# Altium integrated library TI Data Converters Digital to Analog Converter.IntLib: 1533 symbols (part 34 of 99)
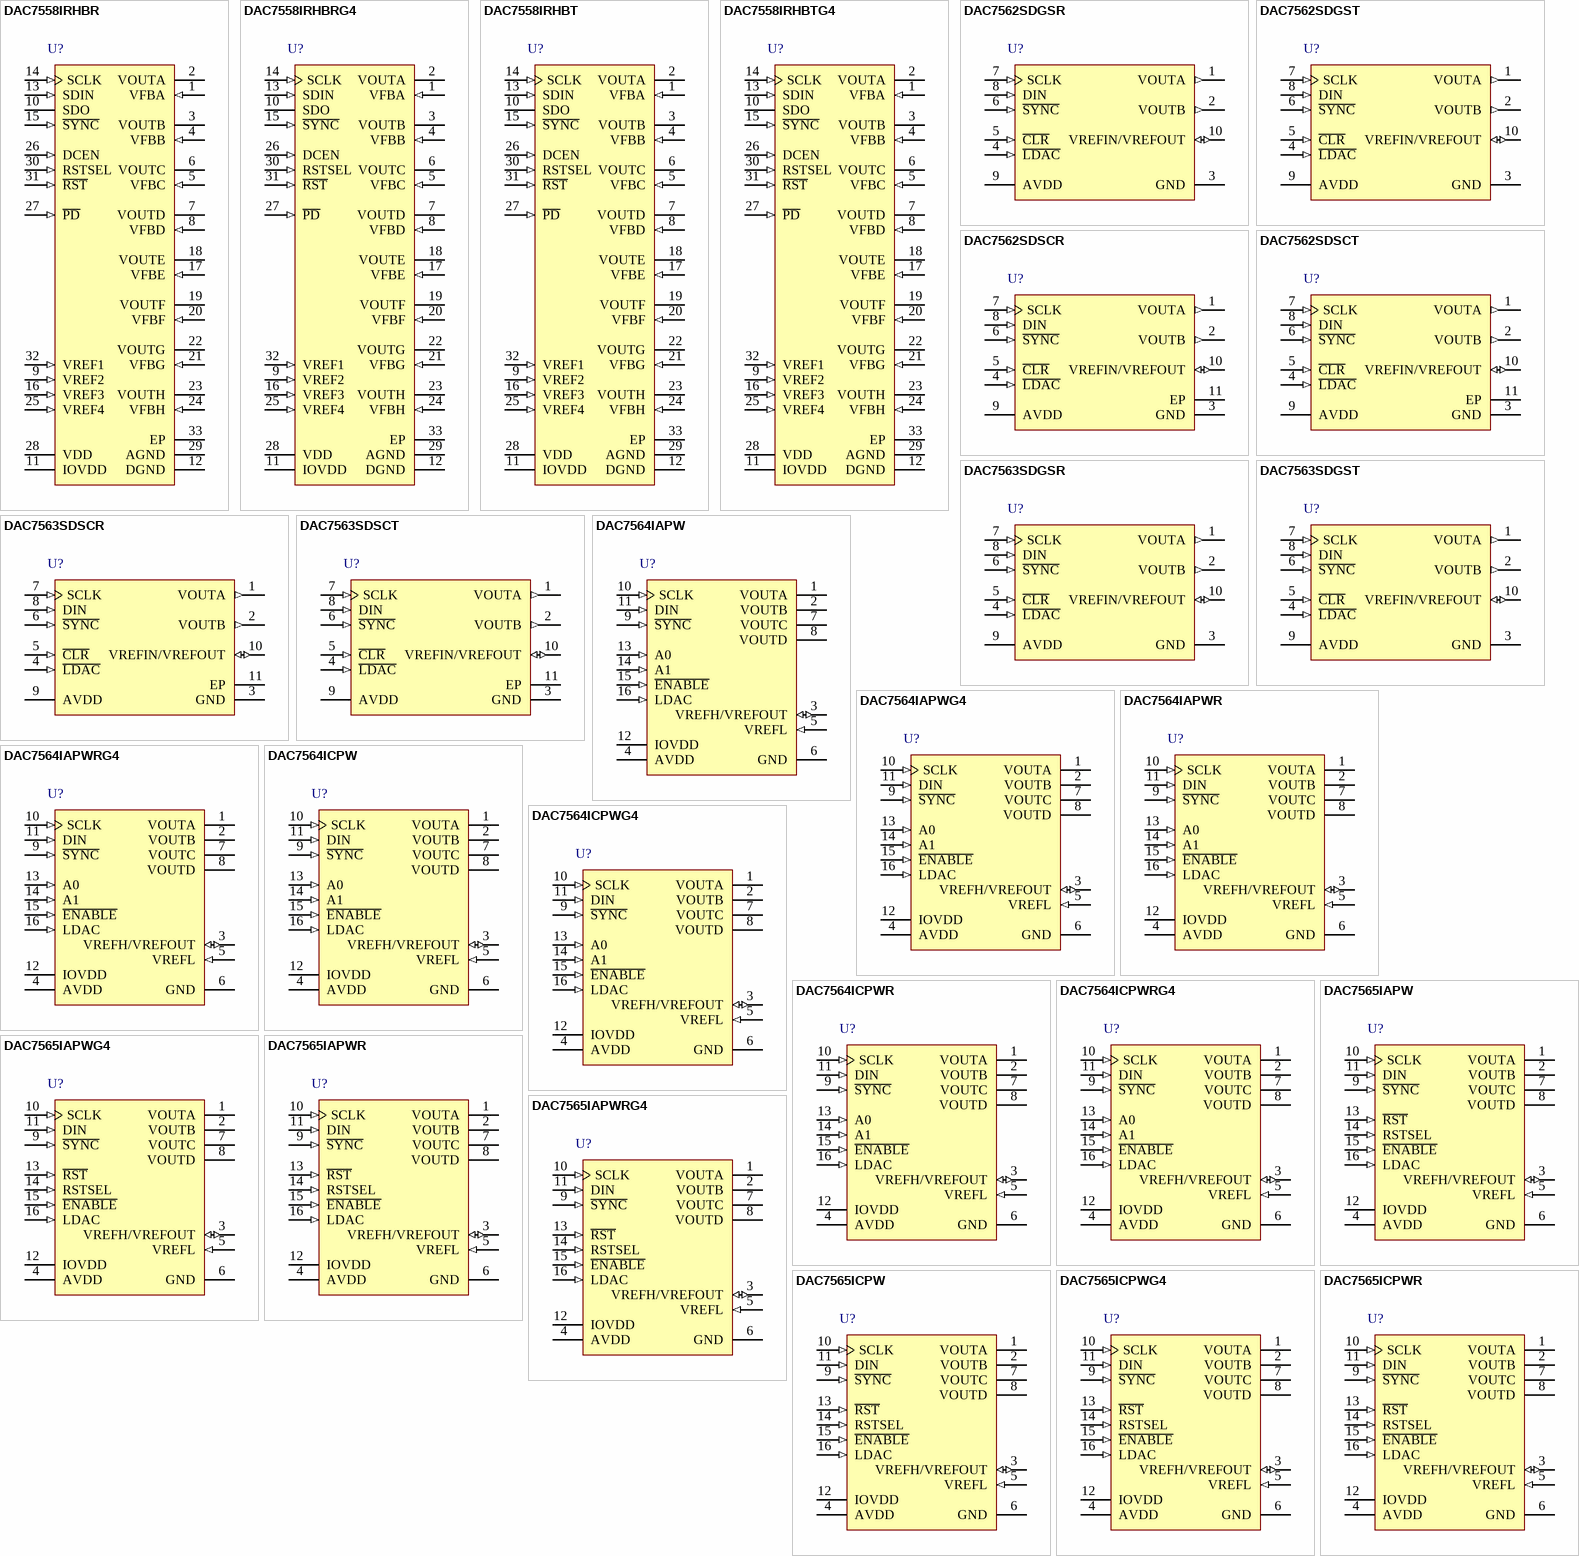
[diagram p106: symbols DAC7558IRHBR to DAC7565ICPWR]

## DAC7565IAPW
designator U?
12-Bit, Quad Channel, Ultra-Low Glitch, Voltage Output DAC with 2.5 V, 2 ppm/degC Internal Reference, -40 to 105 degC, 16-pin SOP (PW16), Green (RoHS & no Sb/Br); Manufacturer: Texas Instruments; PartNumber: DAC7565IAPW; DAC Channels: 4; DNL(Max)(+/-LSB): 0.5; INL(Max)(+/-LSB): 1; Interface: Serial SPI; Power Consumption(Typ)(mW): 2.9; Resolution(Bits): 12; Settling Time(us): 8; SFDR(dB): 79; SNR(dB): 81; SubFamily: Precision DAC (=<10MSPS); DatasheetVersion: SBAS412B; PackageVersion: 4040064-4/G, 02/2011; PackageReference: PW16; PackageDescription: 16-Pin Plastic Small Outline, Body 5 x 4.4 mm, Pitch 0.65 mm; Supplier 1: Digi-Key; Supplier Part Number 1: 296-23221-5-ND; Supplier 2: Farnell; Supplier Part Number 2: 1604982; Supplier 3: Newark; Supplier Part Number 3: 94M6804; Supplier 4: Mouser; Supplier Part Number 4: 595-DAC7565IAPW; Eco-Plan: Green (RoHS & no Sb/Br); Mounting Technology: Surface Mount; Code_JEDEC: MO-153; ComponentLink1Description: Manufacturer URL; ComponentLink1URL: http://www.ti.com/; ComponentLink2Description: Datasheet; ComponentLink2URL: http://www.ti.com/general/docs/lit/getliterature.tsp?genericPartNumber=DAC7565&fileType=pdf; ComponentLink3Description: Package Specification; ComponentLink3URL: http://www.ti.com/lit/ml/mpds361/mpds361.pdf
footprint TI-PW16_N (SOP, 16-Leads, Body 5x4.4mm, Pitch 0.65mm, IPC Medium Density)
footprint TI-PW16_L (SOP, 16-Leads, Body 5x4.4mm, Pitch 0.65mm, IPC High Density)
footprint TI-PW16_M (SOP, 16-Leads, Body 5x4.4mm, Pitch 0.65mm, IPC Low Density)
pins: 1 VOUTA (hiz) "Analog output voltage from DAC A", 2 VOUTB (hiz) "Analog output voltage from DAC B", 3 VREFH/VREFOUT (io) "Positive reference input / reference output 2.5V if internal reference used.", 4 AVDD (power) "Power-supply input, 2.7V to 5.5V", 5 VREFL (in) "Negative reference input", 6 GND (power) "Ground reference point for all circuitry on the part", 7 VOUTC (hiz) "Analog output voltage from DAC C", 8 VOUTD (hiz) "Analog output voltage from DAC D", 9 ~{SYNC} (in) "Level-triggered control input (active low). This input is the frame synchronization signal for the input data. When S\Y\N\C\ goes low, it enables the input shift register, and data are sampled on subsequent falling clock (See Datasheet)", 10 SCLK (in) "Serial clock input. Data can be transferred at rates up to 50MHz. Schmitt-Trigger logic input.", 11 DIN (in) "Serial data input. Data are clocked into the 24-bit input shift register on each falling edge of the serial clock input. Schmitt-Trigger logic input.", 12 IOVDD (power) "Digital input-output power supply", 13 ~{RST} (in) "Asynchronous reset. Active low. If R\S\T\ is low, all DAC channels reset either to zero-scale (RSTSEL = 0) or to mid-scale (RSTSEL = 1)", 14 RSTSEL (in) "Reset select. If RSTSEL is low, input coding is binary; if high = two's complement.", 15 ~{ENABLE} (in) "The enable pin (active low) connects the SPI interface to the serial port", 16 LDAC (in) "Load DACs; rising edge triggered, loads all DAC registers"

## DAC7565IAPWG4
designator U?
12-Bit, Quad Channel, Ultra-Low Glitch, Voltage Output DAC with 2.5 V, 2 ppm/degC Internal Reference, -40 to 105 degC, 16-pin SOP (PW16), Green (RoHS & no Sb/Br); Manufacturer: Texas Instruments; PartNumber: DAC7565IAPWG4; DAC Channels: 4; DNL(Max)(+/-LSB): 0.5; INL(Max)(+/-LSB): 1; Interface: Serial SPI; Power Consumption(Typ)(mW): 2.9; Resolution(Bits): 12; Settling Time(us): 8; SFDR(dB): 79; SNR(dB): 81; SubFamily: Precision DAC (=<10MSPS); DatasheetVersion: SBAS412B; PackageVersion: 4040064-4/G, 02/2011; PackageReference: PW16; PackageDescription: 16-Pin Plastic Small Outline, Body 5 x 4.4 mm, Pitch 0.65 mm; Supplier 1: Digi-Key; Supplier Part Number 1: DAC7565IAPWG4-ND; Supplier 2: Mouser; Supplier Part Number 2: 595-DAC7565IAPWG4; Eco-Plan: Green (RoHS & no Sb/Br); Mounting Technology: Surface Mount; Code_JEDEC: MO-153; ComponentLink1Description: Manufacturer URL; ComponentLink1URL: http://www.ti.com/; ComponentLink2Description: Datasheet; ComponentLink2URL: http://www.ti.com/general/docs/lit/getliterature.tsp?genericPartNumber=DAC7565&fileType=pdf; ComponentLink3Description: Package Specification; ComponentLink3URL: http://www.ti.com/lit/ml/mpds361/mpds361.pdf
footprint TI-PW16_N (SOP, 16-Leads, Body 5x4.4mm, Pitch 0.65mm, IPC Medium Density)
footprint TI-PW16_L (SOP, 16-Leads, Body 5x4.4mm, Pitch 0.65mm, IPC High Density)
footprint TI-PW16_M (SOP, 16-Leads, Body 5x4.4mm, Pitch 0.65mm, IPC Low Density)
pins: 1 VOUTA (hiz) "Analog output voltage from DAC A", 2 VOUTB (hiz) "Analog output voltage from DAC B", 3 VREFH/VREFOUT (io) "Positive reference input / reference output 2.5V if internal reference used.", 4 AVDD (power) "Power-supply input, 2.7V to 5.5V", 5 VREFL (in) "Negative reference input", 6 GND (power) "Ground reference point for all circuitry on the part", 7 VOUTC (hiz) "Analog output voltage from DAC C", 8 VOUTD (hiz) "Analog output voltage from DAC D", 9 ~{SYNC} (in) "Level-triggered control input (active low). This input is the frame synchronization signal for the input data. When S\Y\N\C\ goes low, it enables the input shift register, and data are sampled on subsequent falling clock (See Datasheet)", 10 SCLK (in) "Serial clock input. Data can be transferred at rates up to 50MHz. Schmitt-Trigger logic input.", 11 DIN (in) "Serial data input. Data are clocked into the 24-bit input shift register on each falling edge of the serial clock input. Schmitt-Trigger logic input.", 12 IOVDD (power) "Digital input-output power supply", 13 ~{RST} (in) "Asynchronous reset. Active low. If R\S\T\ is low, all DAC channels reset either to zero-scale (RSTSEL = 0) or to mid-scale (RSTSEL = 1)", 14 RSTSEL (in) "Reset select. If RSTSEL is low, input coding is binary; if high = two's complement.", 15 ~{ENABLE} (in) "The enable pin (active low) connects the SPI interface to the serial port", 16 LDAC (in) "Load DACs; rising edge triggered, loads all DAC registers"

## DAC7565IAPWR
designator U?
12-Bit, Quad Channel, Ultra-Low Glitch, Voltage Output DAC with 2.5 V, 2 ppm/degC Internal Reference, -40 to 105 degC, 16-pin SOP (PW16), Green (RoHS & no Sb/Br); Manufacturer: Texas Instruments; PartNumber: DAC7565IAPWR; DAC Channels: 4; DNL(Max)(+/-LSB): 0.5; INL(Max)(+/-LSB): 1; Interface: Serial SPI; Power Consumption(Typ)(mW): 2.9; Resolution(Bits): 12; Settling Time(us): 8; SFDR(dB): 79; SNR(dB): 81; SubFamily: Precision DAC (=<10MSPS); DatasheetVersion: SBAS412B; PackageVersion: 4040064-4/G, 02/2011; PackageReference: PW16; PackageDescription: 16-Pin Plastic Small Outline, Body 5 x 4.4 mm, Pitch 0.65 mm; Supplier 1: Digi-Key; Supplier Part Number 1: DAC7565IAPWR-ND; Supplier 2: Mouser; Supplier Part Number 2: 595-DAC7565IAPWR; Eco-Plan: Green (RoHS & no Sb/Br); Mounting Technology: Surface Mount; Code_JEDEC: MO-153; ComponentLink1Description: Manufacturer URL; ComponentLink1URL: http://www.ti.com/; ComponentLink2Description: Datasheet; ComponentLink2URL: http://www.ti.com/general/docs/lit/getliterature.tsp?genericPartNumber=DAC7565&fileType=pdf; ComponentLink3Description: Package Specification; ComponentLink3URL: http://www.ti.com/lit/ml/mpds361/mpds361.pdf
footprint TI-PW16_N (SOP, 16-Leads, Body 5x4.4mm, Pitch 0.65mm, IPC Medium Density)
footprint TI-PW16_L (SOP, 16-Leads, Body 5x4.4mm, Pitch 0.65mm, IPC High Density)
footprint TI-PW16_M (SOP, 16-Leads, Body 5x4.4mm, Pitch 0.65mm, IPC Low Density)
pins: 1 VOUTA (hiz) "Analog output voltage from DAC A", 2 VOUTB (hiz) "Analog output voltage from DAC B", 3 VREFH/VREFOUT (io) "Positive reference input / reference output 2.5V if internal reference used.", 4 AVDD (power) "Power-supply input, 2.7V to 5.5V", 5 VREFL (in) "Negative reference input", 6 GND (power) "Ground reference point for all circuitry on the part", 7 VOUTC (hiz) "Analog output voltage from DAC C", 8 VOUTD (hiz) "Analog output voltage from DAC D", 9 ~{SYNC} (in) "Level-triggered control input (active low). This input is the frame synchronization signal for the input data. When S\Y\N\C\ goes low, it enables the input shift register, and data are sampled on subsequent falling clock (See Datasheet)", 10 SCLK (in) "Serial clock input. Data can be transferred at rates up to 50MHz. Schmitt-Trigger logic input.", 11 DIN (in) "Serial data input. Data are clocked into the 24-bit input shift register on each falling edge of the serial clock input. Schmitt-Trigger logic input.", 12 IOVDD (power) "Digital input-output power supply", 13 ~{RST} (in) "Asynchronous reset. Active low. If R\S\T\ is low, all DAC channels reset either to zero-scale (RSTSEL = 0) or to mid-scale (RSTSEL = 1)", 14 RSTSEL (in) "Reset select. If RSTSEL is low, input coding is binary; if high = two's complement.", 15 ~{ENABLE} (in) "The enable pin (active low) connects the SPI interface to the serial port", 16 LDAC (in) "Load DACs; rising edge triggered, loads all DAC registers"

## DAC7565IAPWRG4
designator U?
12-Bit, Quad Channel, Ultra-Low Glitch, Voltage Output DAC with 2.5 V, 2 ppm/degC Internal Reference, -40 to 105 degC, 16-pin SOP (PW16), Green (RoHS & no Sb/Br); Manufacturer: Texas Instruments; PartNumber: DAC7565IAPWRG4; DAC Channels: 4; DNL(Max)(+/-LSB): 0.5; INL(Max)(+/-LSB): 1; Interface: Serial SPI; Power Consumption(Typ)(mW): 2.9; Resolution(Bits): 12; Settling Time(us): 8; SFDR(dB): 79; SNR(dB): 81; SubFamily: Precision DAC (=<10MSPS); DatasheetVersion: SBAS412B; PackageVersion: 4040064-4/G, 02/2011; PackageReference: PW16; PackageDescription: 16-Pin Plastic Small Outline, Body 5 x 4.4 mm, Pitch 0.65 mm; Supplier 1: Digi-Key; Supplier Part Number 1: DAC7565IAPWRG4-ND; Supplier 2: Mouser; Supplier Part Number 2: 595-DAC7565IAPWRG4; Eco-Plan: Green (RoHS & no Sb/Br); Mounting Technology: Surface Mount; Code_JEDEC: MO-153; ComponentLink1Description: Manufacturer URL; ComponentLink1URL: http://www.ti.com/; ComponentLink2Description: Datasheet; ComponentLink2URL: http://www.ti.com/general/docs/lit/getliterature.tsp?genericPartNumber=DAC7565&fileType=pdf; ComponentLink3Description: Package Specification; ComponentLink3URL: http://www.ti.com/lit/ml/mpds361/mpds361.pdf
footprint TI-PW16_N (SOP, 16-Leads, Body 5x4.4mm, Pitch 0.65mm, IPC Medium Density)
footprint TI-PW16_L (SOP, 16-Leads, Body 5x4.4mm, Pitch 0.65mm, IPC High Density)
footprint TI-PW16_M (SOP, 16-Leads, Body 5x4.4mm, Pitch 0.65mm, IPC Low Density)
pins: 1 VOUTA (hiz) "Analog output voltage from DAC A", 2 VOUTB (hiz) "Analog output voltage from DAC B", 3 VREFH/VREFOUT (io) "Positive reference input / reference output 2.5V if internal reference used.", 4 AVDD (power) "Power-supply input, 2.7V to 5.5V", 5 VREFL (in) "Negative reference input", 6 GND (power) "Ground reference point for all circuitry on the part", 7 VOUTC (hiz) "Analog output voltage from DAC C", 8 VOUTD (hiz) "Analog output voltage from DAC D", 9 ~{SYNC} (in) "Level-triggered control input (active low). This input is the frame synchronization signal for the input data. When S\Y\N\C\ goes low, it enables the input shift register, and data are sampled on subsequent falling clock (See Datasheet)", 10 SCLK (in) "Serial clock input. Data can be transferred at rates up to 50MHz. Schmitt-Trigger logic input.", 11 DIN (in) "Serial data input. Data are clocked into the 24-bit input shift register on each falling edge of the serial clock input. Schmitt-Trigger logic input.", 12 IOVDD (power) "Digital input-output power supply", 13 ~{RST} (in) "Asynchronous reset. Active low. If R\S\T\ is low, all DAC channels reset either to zero-scale (RSTSEL = 0) or to mid-scale (RSTSEL = 1)", 14 RSTSEL (in) "Reset select. If RSTSEL is low, input coding is binary; if high = two's complement.", 15 ~{ENABLE} (in) "The enable pin (active low) connects the SPI interface to the serial port", 16 LDAC (in) "Load DACs; rising edge triggered, loads all DAC registers"

## DAC7565ICPW
designator U?
12-Bit, Quad Channel, Ultra-Low Glitch, Voltage Output DAC with 2.5 V, 2 ppm/degC Internal Reference, -40 to 105 degC, 16-pin SOP (PW16), Green (RoHS & no Sb/Br); Manufacturer: Texas Instruments; PartNumber: DAC7565ICPW; DAC Channels: 4; DNL(Max)(+/-LSB): 0.5; INL(Max)(+/-LSB): 1; Interface: Serial SPI; Power Consumption(Typ)(mW): 2.9; Resolution(Bits): 12; Settling Time(us): 8; SFDR(dB): 79; SNR(dB): 81; SubFamily: Precision DAC (=<10MSPS); DatasheetVersion: SBAS412B; PackageVersion: 4040064-4/G, 02/2011; PackageReference: PW16; PackageDescription: 16-Pin Plastic Small Outline, Body 5 x 4.4 mm, Pitch 0.65 mm; Supplier 1: Digi-Key; Supplier Part Number 1: 296-23222-5-ND; Supplier 2: Newark; Supplier Part Number 2: 94M6808; Supplier 3: Mouser; Supplier Part Number 3: 595-DAC7565ICPW; Eco-Plan: Green (RoHS & no Sb/Br); Mounting Technology: Surface Mount; Code_JEDEC: MO-153; ComponentLink1Description: Manufacturer URL; ComponentLink1URL: http://www.ti.com/; ComponentLink2Description: Datasheet; ComponentLink2URL: http://www.ti.com/general/docs/lit/getliterature.tsp?genericPartNumber=DAC7565&fileType=pdf; ComponentLink3Description: Package Specification; ComponentLink3URL: http://www.ti.com/lit/ml/mpds361/mpds361.pdf
footprint TI-PW16_N (SOP, 16-Leads, Body 5x4.4mm, Pitch 0.65mm, IPC Medium Density)
footprint TI-PW16_L (SOP, 16-Leads, Body 5x4.4mm, Pitch 0.65mm, IPC High Density)
footprint TI-PW16_M (SOP, 16-Leads, Body 5x4.4mm, Pitch 0.65mm, IPC Low Density)
pins: 1 VOUTA (hiz) "Analog output voltage from DAC A", 2 VOUTB (hiz) "Analog output voltage from DAC B", 3 VREFH/VREFOUT (io) "Positive reference input / reference output 2.5V if internal reference used.", 4 AVDD (power) "Power-supply input, 2.7V to 5.5V", 5 VREFL (in) "Negative reference input", 6 GND (power) "Ground reference point for all circuitry on the part", 7 VOUTC (hiz) "Analog output voltage from DAC C", 8 VOUTD (hiz) "Analog output voltage from DAC D", 9 ~{SYNC} (in) "Level-triggered control input (active low). This input is the frame synchronization signal for the input data. When S\Y\N\C\ goes low, it enables the input shift register, and data are sampled on subsequent falling clock (See Datasheet)", 10 SCLK (in) "Serial clock input. Data can be transferred at rates up to 50MHz. Schmitt-Trigger logic input.", 11 DIN (in) "Serial data input. Data are clocked into the 24-bit input shift register on each falling edge of the serial clock input. Schmitt-Trigger logic input.", 12 IOVDD (power) "Digital input-output power supply", 13 ~{RST} (in) "Asynchronous reset. Active low. If R\S\T\ is low, all DAC channels reset either to zero-scale (RSTSEL = 0) or to mid-scale (RSTSEL = 1)", 14 RSTSEL (in) "Reset select. If RSTSEL is low, input coding is binary; if high = two's complement.", 15 ~{ENABLE} (in) "The enable pin (active low) connects the SPI interface to the serial port", 16 LDAC (in) "Load DACs; rising edge triggered, loads all DAC registers"

## DAC7565ICPWG4
designator U?
12-Bit, Quad Channel, Ultra-Low Glitch, Voltage Output DAC with 2.5 V, 2 ppm/degC Internal Reference, -40 to 105 degC, 16-pin SOP (PW16), Green (RoHS & no Sb/Br); Manufacturer: Texas Instruments; PartNumber: DAC7565ICPWG4; DAC Channels: 4; DNL(Max)(+/-LSB): 0.5; INL(Max)(+/-LSB): 1; Interface: Serial SPI; Power Consumption(Typ)(mW): 2.9; Resolution(Bits): 12; Settling Time(us): 8; SFDR(dB): 79; SNR(dB): 81; SubFamily: Precision DAC (=<10MSPS); DatasheetVersion: SBAS412B; PackageVersion: 4040064-4/G, 02/2011; PackageReference: PW16; PackageDescription: 16-Pin Plastic Small Outline, Body 5 x 4.4 mm, Pitch 0.65 mm; Supplier 1: Digi-Key; Supplier Part Number 1: DAC7565ICPWG4-ND; Supplier 2: Mouser; Supplier Part Number 2: 595-DAC7565ICPWG4; Eco-Plan: Green (RoHS & no Sb/Br); Mounting Technology: Surface Mount; Code_JEDEC: MO-153; ComponentLink1Description: Manufacturer URL; ComponentLink1URL: http://www.ti.com/; ComponentLink2Description: Datasheet; ComponentLink2URL: http://www.ti.com/general/docs/lit/getliterature.tsp?genericPartNumber=DAC7565&fileType=pdf; ComponentLink3Description: Package Specification; ComponentLink3URL: http://www.ti.com/lit/ml/mpds361/mpds361.pdf
footprint TI-PW16_N (SOP, 16-Leads, Body 5x4.4mm, Pitch 0.65mm, IPC Medium Density)
footprint TI-PW16_L (SOP, 16-Leads, Body 5x4.4mm, Pitch 0.65mm, IPC High Density)
footprint TI-PW16_M (SOP, 16-Leads, Body 5x4.4mm, Pitch 0.65mm, IPC Low Density)
pins: 1 VOUTA (hiz) "Analog output voltage from DAC A", 2 VOUTB (hiz) "Analog output voltage from DAC B", 3 VREFH/VREFOUT (io) "Positive reference input / reference output 2.5V if internal reference used.", 4 AVDD (power) "Power-supply input, 2.7V to 5.5V", 5 VREFL (in) "Negative reference input", 6 GND (power) "Ground reference point for all circuitry on the part", 7 VOUTC (hiz) "Analog output voltage from DAC C", 8 VOUTD (hiz) "Analog output voltage from DAC D", 9 ~{SYNC} (in) "Level-triggered control input (active low). This input is the frame synchronization signal for the input data. When S\Y\N\C\ goes low, it enables the input shift register, and data are sampled on subsequent falling clock (See Datasheet)", 10 SCLK (in) "Serial clock input. Data can be transferred at rates up to 50MHz. Schmitt-Trigger logic input.", 11 DIN (in) "Serial data input. Data are clocked into the 24-bit input shift register on each falling edge of the serial clock input. Schmitt-Trigger logic input.", 12 IOVDD (power) "Digital input-output power supply", 13 ~{RST} (in) "Asynchronous reset. Active low. If R\S\T\ is low, all DAC channels reset either to zero-scale (RSTSEL = 0) or to mid-scale (RSTSEL = 1)", 14 RSTSEL (in) "Reset select. If RSTSEL is low, input coding is binary; if high = two's complement.", 15 ~{ENABLE} (in) "The enable pin (active low) connects the SPI interface to the serial port", 16 LDAC (in) "Load DACs; rising edge triggered, loads all DAC registers"

## DAC7565ICPWR
designator U?
12-Bit, Quad Channel, Ultra-Low Glitch, Voltage Output DAC with 2.5 V, 2 ppm/degC Internal Reference, -40 to 105 degC, 16-pin SOP (PW16), Green (RoHS & no Sb/Br); Manufacturer: Texas Instruments; PartNumber: DAC7565ICPWR; DAC Channels: 4; DNL(Max)(+/-LSB): 0.5; INL(Max)(+/-LSB): 1; Interface: Serial SPI; Power Consumption(Typ)(mW): 2.9; Resolution(Bits): 12; Settling Time(us): 8; SFDR(dB): 79; SNR(dB): 81; SubFamily: Precision DAC (=<10MSPS); DatasheetVersion: SBAS412B; PackageVersion: 4040064-4/G, 02/2011; PackageReference: PW16; PackageDescription: 16-Pin Plastic Small Outline, Body 5 x 4.4 mm, Pitch 0.65 mm; Supplier 1: Digi-Key; Supplier Part Number 1: DAC7565ICPWR-ND; Supplier 2: Newark; Supplier Part Number 2: 94M6810; Supplier 3: Mouser; Supplier Part Number 3: 595-DAC7565ICPWR; Eco-Plan: Green (RoHS & no Sb/Br); Mounting Technology: Surface Mount; Code_JEDEC: MO-153; ComponentLink1Description: Manufacturer URL; ComponentLink1URL: http://www.ti.com/; ComponentLink2Description: Datasheet; ComponentLink2URL: http://www.ti.com/general/docs/lit/getliterature.tsp?genericPartNumber=DAC7565&fileType=pdf; ComponentLink3Description: Package Specification; ComponentLink3URL: http://www.ti.com/lit/ml/mpds361/mpds361.pdf
footprint TI-PW16_N (SOP, 16-Leads, Body 5x4.4mm, Pitch 0.65mm, IPC Medium Density)
footprint TI-PW16_L (SOP, 16-Leads, Body 5x4.4mm, Pitch 0.65mm, IPC High Density)
footprint TI-PW16_M (SOP, 16-Leads, Body 5x4.4mm, Pitch 0.65mm, IPC Low Density)
pins: 1 VOUTA (hiz) "Analog output voltage from DAC A", 2 VOUTB (hiz) "Analog output voltage from DAC B", 3 VREFH/VREFOUT (io) "Positive reference input / reference output 2.5V if internal reference used.", 4 AVDD (power) "Power-supply input, 2.7V to 5.5V", 5 VREFL (in) "Negative reference input", 6 GND (power) "Ground reference point for all circuitry on the part", 7 VOUTC (hiz) "Analog output voltage from DAC C", 8 VOUTD (hiz) "Analog output voltage from DAC D", 9 ~{SYNC} (in) "Level-triggered control input (active low). This input is the frame synchronization signal for the input data. When S\Y\N\C\ goes low, it enables the input shift register, and data are sampled on subsequent falling clock (See Datasheet)", 10 SCLK (in) "Serial clock input. Data can be transferred at rates up to 50MHz. Schmitt-Trigger logic input.", 11 DIN (in) "Serial data input. Data are clocked into the 24-bit input shift register on each falling edge of the serial clock input. Schmitt-Trigger logic input.", 12 IOVDD (power) "Digital input-output power supply", 13 ~{RST} (in) "Asynchronous reset. Active low. If R\S\T\ is low, all DAC channels reset either to zero-scale (RSTSEL = 0) or to mid-scale (RSTSEL = 1)", 14 RSTSEL (in) "Reset select. If RSTSEL is low, input coding is binary; if high = two's complement.", 15 ~{ENABLE} (in) "The enable pin (active low) connects the SPI interface to the serial port", 16 LDAC (in) "Load DACs; rising edge triggered, loads all DAC registers"

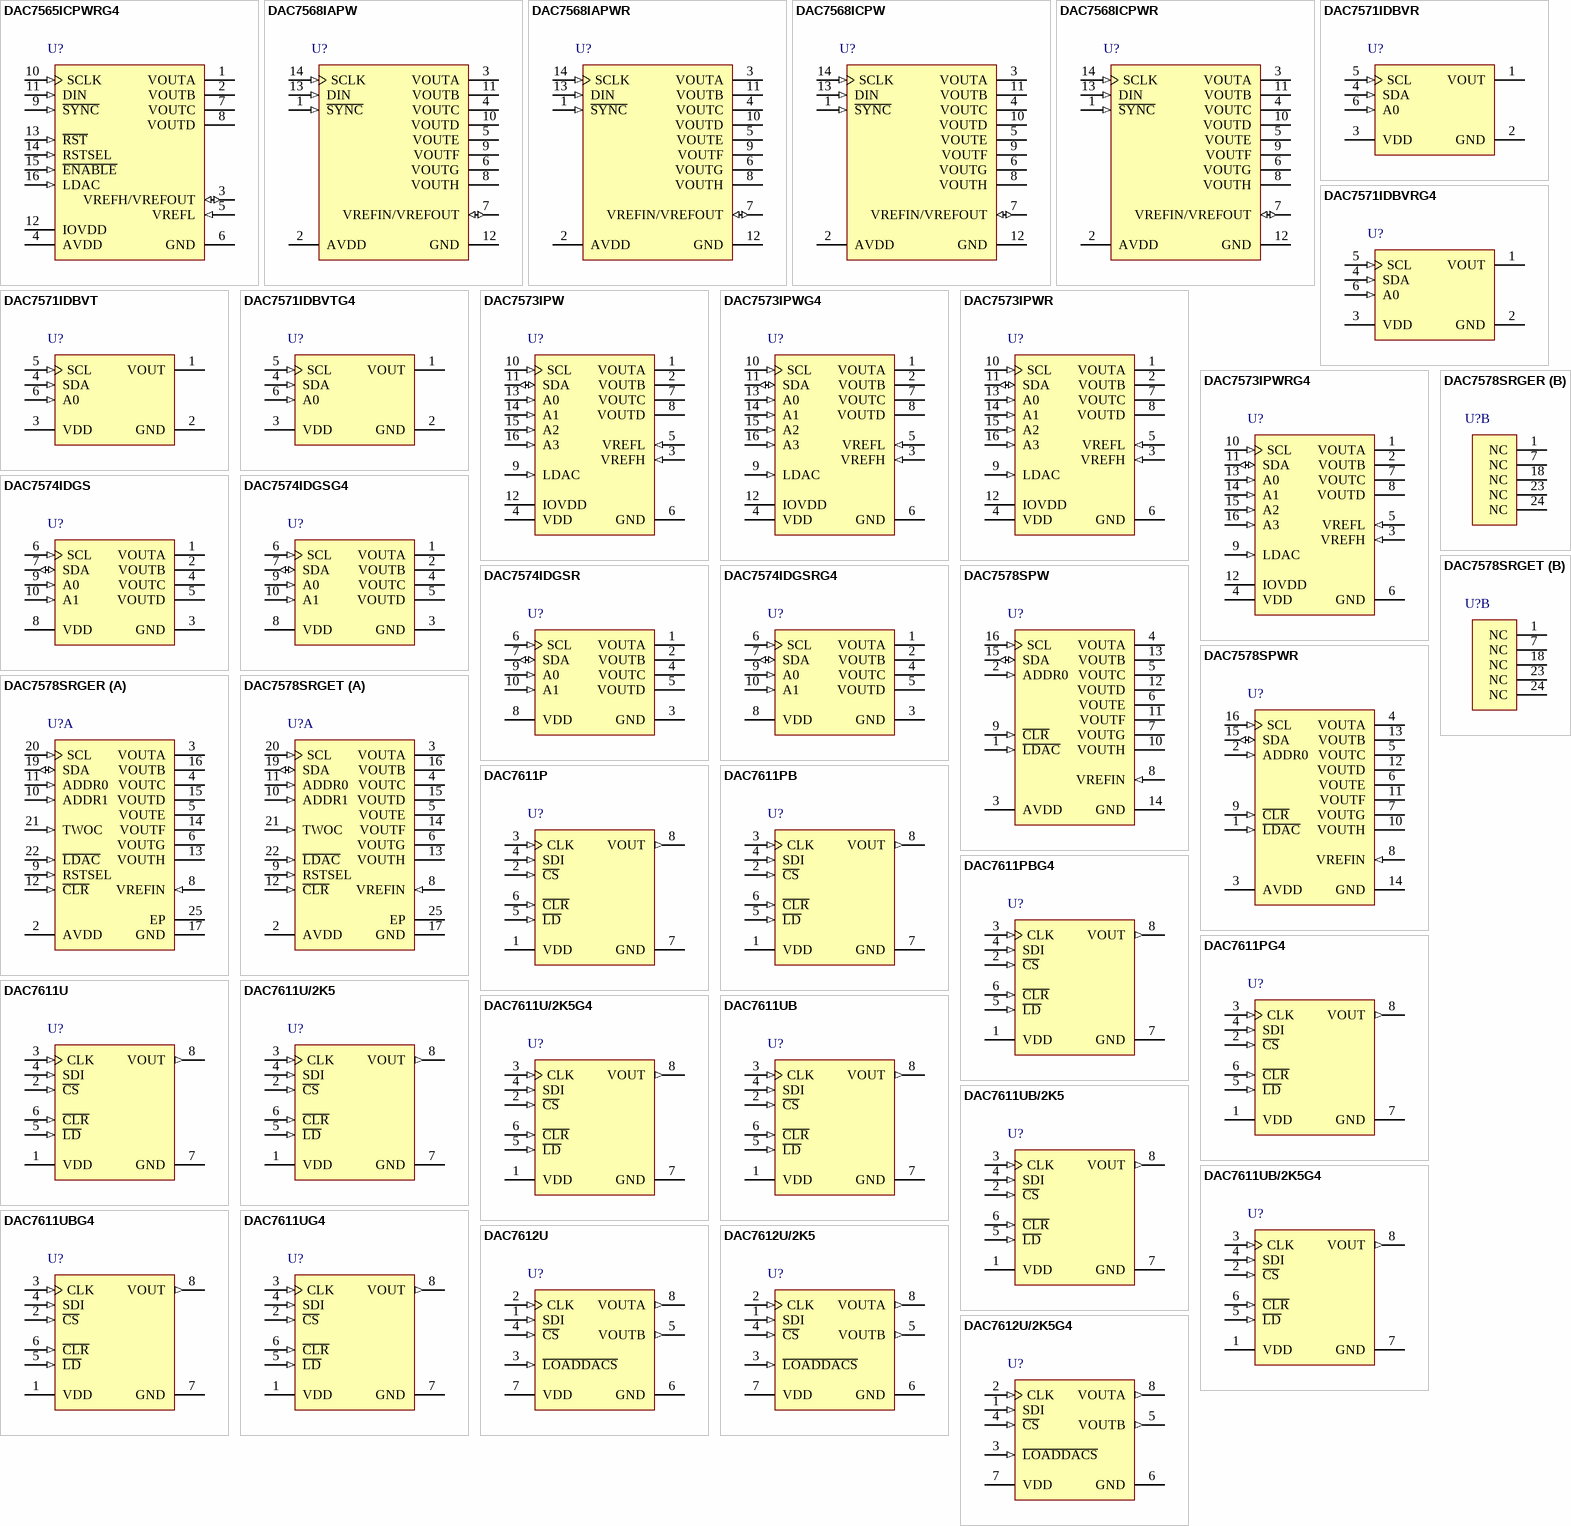
[diagram p25: symbols DAC7565ICPWRG4 to DAC7612U/2K5G4]

## DAC7565ICPWRG4
designator U?
12-Bit, Quad Channel, Ultra-Low Glitch, Voltage Output DAC with 2.5 V, 2 ppm/degC Internal Reference, -40 to 105 degC, 16-pin SOP (PW16), Green (RoHS & no Sb/Br); Manufacturer: Texas Instruments; PartNumber: DAC7565ICPWRG4; DAC Channels: 4; DNL(Max)(+/-LSB): 0.5; INL(Max)(+/-LSB): 1; Interface: Serial SPI; Power Consumption(Typ)(mW): 2.9; Resolution(Bits): 12; Settling Time(us): 8; SFDR(dB): 79; SNR(dB): 81; SubFamily: Precision DAC (=<10MSPS); DatasheetVersion: SBAS412B; PackageVersion: 4040064-4/G, 02/2011; PackageReference: PW16; PackageDescription: 16-Pin Plastic Small Outline, Body 5 x 4.4 mm, Pitch 0.65 mm; Supplier 1: Digi-Key; Supplier Part Number 1: DAC7565ICPWRG4-ND; Supplier 2: Mouser; Supplier Part Number 2: 595-DAC7565ICPWRG4; Eco-Plan: Green (RoHS & no Sb/Br); Mounting Technology: Surface Mount; Code_JEDEC: MO-153; ComponentLink1Description: Manufacturer URL; ComponentLink1URL: http://www.ti.com/; ComponentLink2Description: Datasheet; ComponentLink2URL: http://www.ti.com/general/docs/lit/getliterature.tsp?genericPartNumber=DAC7565&fileType=pdf; ComponentLink3Description: Package Specification; ComponentLink3URL: http://www.ti.com/lit/ml/mpds361/mpds361.pdf
footprint TI-PW16_N (SOP, 16-Leads, Body 5x4.4mm, Pitch 0.65mm, IPC Medium Density)
footprint TI-PW16_L (SOP, 16-Leads, Body 5x4.4mm, Pitch 0.65mm, IPC High Density)
footprint TI-PW16_M (SOP, 16-Leads, Body 5x4.4mm, Pitch 0.65mm, IPC Low Density)
pins: 1 VOUTA (hiz) "Analog output voltage from DAC A", 2 VOUTB (hiz) "Analog output voltage from DAC B", 3 VREFH/VREFOUT (io) "Positive reference input / reference output 2.5V if internal reference used.", 4 AVDD (power) "Power-supply input, 2.7V to 5.5V", 5 VREFL (in) "Negative reference input", 6 GND (power) "Ground reference point for all circuitry on the part", 7 VOUTC (hiz) "Analog output voltage from DAC C", 8 VOUTD (hiz) "Analog output voltage from DAC D", 9 ~{SYNC} (in) "Level-triggered control input (active low). This input is the frame synchronization signal for the input data. When S\Y\N\C\ goes low, it enables the input shift register, and data are sampled on subsequent falling clock (See Datasheet)", 10 SCLK (in) "Serial clock input. Data can be transferred at rates up to 50MHz. Schmitt-Trigger logic input.", 11 DIN (in) "Serial data input. Data are clocked into the 24-bit input shift register on each falling edge of the serial clock input. Schmitt-Trigger logic input.", 12 IOVDD (power) "Digital input-output power supply", 13 ~{RST} (in) "Asynchronous reset. Active low. If R\S\T\ is low, all DAC channels reset either to zero-scale (RSTSEL = 0) or to mid-scale (RSTSEL = 1)", 14 RSTSEL (in) "Reset select. If RSTSEL is low, input coding is binary; if high = two's complement.", 15 ~{ENABLE} (in) "The enable pin (active low) connects the SPI interface to the serial port", 16 LDAC (in) "Load DACs; rising edge triggered, loads all DAC registers"

## DAC7568IAPW
designator U?
12-Bit, Octal Channel, Ultra-Low Glitch, Voltage Output DAC with 2.5V, 2 ppm/degC Internal Reference, -40 to 125 degC, 14-pin SOP (PW14), Green (RoHS & no Sb/Br); Manufacturer: Texas Instruments; PartNumber: DAC7568IAPW; DAC Channels: 8; DNL(Max)(+/-LSB): 0.25; INL(Max)(+/-LSB): 1; Interface: Serial SPI; Power Consumption(Typ)(mW): 2.2; Resolution(Bits): 12; Settling Time(us): 5; SFDR(dB): 63; SNR(dB): 83; SubFamily: Precision DAC (=<10MSPS); DatasheetVersion: SBAS430D; PackageVersion: 4040064-3/G, 02/2011; PackageReference: PW14; PackageDescription: 14-Pin Plastic Small Outline, Body 5 x 4.4 mm, Pitch 0.65 mm; Supplier 1: Digi-Key; Supplier Part Number 1: 296-24403-5-ND; Supplier 2: Newark; Supplier Part Number 2: 09R4523; Supplier 3: Mouser; Supplier Part Number 3: 595-DAC7568IAPW; Eco-Plan: Green (RoHS & no Sb/Br); Mounting Technology: Surface Mount; Code_JEDEC: MO-153; ComponentLink1Description: Manufacturer URL; ComponentLink1URL: http://www.ti.com/; ComponentLink2Description: Datasheet; ComponentLink2URL: http://www.ti.com/general/docs/lit/getliterature.tsp?genericPartNumber=DAC7568&fileType=pdf; ComponentLink3Description: Package Specification; ComponentLink3URL: http://www.ti.com/litv/pdf/mpds360
footprint TI-PW14_N (SOP, 14-Leads, Body 5x4.4mm, Pitch 0.65mm, IPC Medium Density)
footprint TI-PW14_L (SOP, 14-Leads, Body 5x4.4mm, Pitch 0.65mm, IPC High Density)
footprint TI-PW14_M (SOP, 14-Leads, Body 5x4.4mm, Pitch 0.65mm, IPC Low Density)
pins: 1 ~{SYNC} (in) "Level-triggered control input (active low). This input is the frame synchronization signal for the input data. When S\Y\N\C\ goes low, it enables the input shift register, and data are sampled on subsequent falling clock (See Datasheet)", 2 AVDD (power) "Power-supply input, 2.7V to 5.5V", 3 VOUTA (hiz) "Analog output voltage from DAC A", 4 VOUTC (hiz) "Analog output voltage from DAC C", 5 VOUTE (hiz) "Analog output voltage from DAC E", 6 VOUTG (hiz) "Analog output voltage from DAC G", 7 VREFIN/VREFOUT (io) "Positive reference input / reference output 2.5V if internal reference used.", 8 VOUTH (hiz) "Analog output voltage from DAC H", 9 VOUTF (hiz) "Analog output voltage from DAC F", 10 VOUTD (hiz) "Analog output voltage from DAC D", 11 VOUTB (hiz) "Analog output voltage from DAC B", 12 GND (power) "Ground reference point for all circuitry on the device", 13 DIN (in) "Serial data input. Data are clocked into the 32-bit input shift register on each falling edge of the serial clock input. Schmitt-Trigger logic input.", 14 SCLK (in) "Serial clock input. Data can be transferred at rates up to 50MHz. Schmitt-Trigger logic input."

## DAC7568IAPWR
designator U?
12-Bit, Octal Channel, Ultra-Low Glitch, Voltage Output DAC with 2.5V, 2 ppm/degC Internal Reference, -40 to 125 degC, 14-pin SOP (PW14), Green (RoHS & no Sb/Br); Manufacturer: Texas Instruments; PartNumber: DAC7568IAPWR; DAC Channels: 8; DNL(Max)(+/-LSB): 0.25; INL(Max)(+/-LSB): 1; Interface: Serial SPI; Power Consumption(Typ)(mW): 2.2; Resolution(Bits): 12; Settling Time(us): 5; SFDR(dB): 63; SNR(dB): 83; SubFamily: Precision DAC (=<10MSPS); DatasheetVersion: SBAS430D; PackageVersion: 4040064-3/G, 02/2011; PackageReference: PW14; PackageDescription: 14-Pin Plastic Small Outline, Body 5 x 4.4 mm, Pitch 0.65 mm; Supplier 1: Digi-Key; Supplier Part Number 1: DAC7568IAPWR-ND; Supplier 2: Newark; Supplier Part Number 2: 09R4524; Supplier 3: Mouser; Supplier Part Number 3: 595-DAC7568IAPWR; Eco-Plan: Green (RoHS & no Sb/Br); Mounting Technology: Surface Mount; Code_JEDEC: MO-153; ComponentLink1Description: Manufacturer URL; ComponentLink1URL: http://www.ti.com/; ComponentLink2Description: Datasheet; ComponentLink2URL: http://www.ti.com/general/docs/lit/getliterature.tsp?genericPartNumber=DAC7568&fileType=pdf; ComponentLink3Description: Package Specification; ComponentLink3URL: http://www.ti.com/litv/pdf/mpds360
footprint TI-PW14_N (SOP, 14-Leads, Body 5x4.4mm, Pitch 0.65mm, IPC Medium Density)
footprint TI-PW14_L (SOP, 14-Leads, Body 5x4.4mm, Pitch 0.65mm, IPC High Density)
footprint TI-PW14_M (SOP, 14-Leads, Body 5x4.4mm, Pitch 0.65mm, IPC Low Density)
pins: 1 ~{SYNC} (in) "Level-triggered control input (active low). This input is the frame synchronization signal for the input data. When S\Y\N\C\ goes low, it enables the input shift register, and data are sampled on subsequent falling clock (See Datasheet)", 2 AVDD (power) "Power-supply input, 2.7V to 5.5V", 3 VOUTA (hiz) "Analog output voltage from DAC A", 4 VOUTC (hiz) "Analog output voltage from DAC C", 5 VOUTE (hiz) "Analog output voltage from DAC E", 6 VOUTG (hiz) "Analog output voltage from DAC G", 7 VREFIN/VREFOUT (io) "Positive reference input / reference output 2.5V if internal reference used.", 8 VOUTH (hiz) "Analog output voltage from DAC H", 9 VOUTF (hiz) "Analog output voltage from DAC F", 10 VOUTD (hiz) "Analog output voltage from DAC D", 11 VOUTB (hiz) "Analog output voltage from DAC B", 12 GND (power) "Ground reference point for all circuitry on the device", 13 DIN (in) "Serial data input. Data are clocked into the 32-bit input shift register on each falling edge of the serial clock input. Schmitt-Trigger logic input.", 14 SCLK (in) "Serial clock input. Data can be transferred at rates up to 50MHz. Schmitt-Trigger logic input."

## DAC7568ICPW
designator U?
12-Bit, Octal Channel, Ultra-Low Glitch, Voltage Output DAC with 2.5V, 2 ppm/degC Internal Reference, -40 to 125 degC, 14-pin SOP (PW14), Green (RoHS & no Sb/Br); Manufacturer: Texas Instruments; PartNumber: DAC7568ICPW; DAC Channels: 8; DNL(Max)(+/-LSB): 0.25; INL(Max)(+/-LSB): 1; Interface: Serial SPI; Power Consumption(Typ)(mW): 2.2; Resolution(Bits): 12; Settling Time(us): 5; SFDR(dB): 63; SNR(dB): 83; SubFamily: Precision DAC (=<10MSPS); DatasheetVersion: SBAS430D; PackageVersion: 4040064-3/G, 02/2011; PackageReference: PW14; PackageDescription: 14-Pin Plastic Small Outline, Body 5 x 4.4 mm, Pitch 0.65 mm; Supplier 1: Digi-Key; Supplier Part Number 1: 296-24404-5-ND; Supplier 2: Farnell; Supplier Part Number 2: 1735560; Supplier 3: Newark; Supplier Part Number 3: 08R4452; Supplier 4: Mouser; Supplier Part Number 4: 595-DAC7568ICPW; Eco-Plan: Green (RoHS & no Sb/Br); Mounting Technology: Surface Mount; Code_JEDEC: MO-153; ComponentLink1Description: Manufacturer URL; ComponentLink1URL: http://www.ti.com/; ComponentLink2Description: Datasheet; ComponentLink2URL: http://www.ti.com/general/docs/lit/getliterature.tsp?genericPartNumber=DAC7568&fileType=pdf; ComponentLink3Description: Package Specification; ComponentLink3URL: http://www.ti.com/litv/pdf/mpds360
footprint TI-PW14_N (SOP, 14-Leads, Body 5x4.4mm, Pitch 0.65mm, IPC Medium Density)
footprint TI-PW14_L (SOP, 14-Leads, Body 5x4.4mm, Pitch 0.65mm, IPC High Density)
footprint TI-PW14_M (SOP, 14-Leads, Body 5x4.4mm, Pitch 0.65mm, IPC Low Density)
pins: 1 ~{SYNC} (in) "Level-triggered control input (active low). This input is the frame synchronization signal for the input data. When S\Y\N\C\ goes low, it enables the input shift register, and data are sampled on subsequent falling clock (See Datasheet)", 2 AVDD (power) "Power-supply input, 2.7V to 5.5V", 3 VOUTA (hiz) "Analog output voltage from DAC A", 4 VOUTC (hiz) "Analog output voltage from DAC C", 5 VOUTE (hiz) "Analog output voltage from DAC E", 6 VOUTG (hiz) "Analog output voltage from DAC G", 7 VREFIN/VREFOUT (io) "Positive reference input / reference output 2.5V if internal reference used.", 8 VOUTH (hiz) "Analog output voltage from DAC H", 9 VOUTF (hiz) "Analog output voltage from DAC F", 10 VOUTD (hiz) "Analog output voltage from DAC D", 11 VOUTB (hiz) "Analog output voltage from DAC B", 12 GND (power) "Ground reference point for all circuitry on the device", 13 DIN (in) "Serial data input. Data are clocked into the 32-bit input shift register on each falling edge of the serial clock input. Schmitt-Trigger logic input.", 14 SCLK (in) "Serial clock input. Data can be transferred at rates up to 50MHz. Schmitt-Trigger logic input."

## DAC7568ICPWR
designator U?
12-Bit, Octal Channel, Ultra-Low Glitch, Voltage Output DAC with 2.5V, 2 ppm/degC Internal Reference, -40 to 125 degC, 14-pin SOP (PW14), Green (RoHS & no Sb/Br); Manufacturer: Texas Instruments; PartNumber: DAC7568ICPWR; DAC Channels: 8; DNL(Max)(+/-LSB): 0.25; INL(Max)(+/-LSB): 1; Interface: Serial SPI; Power Consumption(Typ)(mW): 2.2; Resolution(Bits): 12; Settling Time(us): 5; SFDR(dB): 63; SNR(dB): 83; SubFamily: Precision DAC (=<10MSPS); DatasheetVersion: SBAS430D; PackageVersion: 4040064-3/G, 02/2011; PackageReference: PW14; PackageDescription: 14-Pin Plastic Small Outline, Body 5 x 4.4 mm, Pitch 0.65 mm; Supplier 1: Digi-Key; Supplier Part Number 1: DAC7568ICPWR-ND; Supplier 2: Newark; Supplier Part Number 2: 09R4525; Supplier 3: Mouser; Supplier Part Number 3: 595-DAC7568ICPWR; Eco-Plan: Green (RoHS & no Sb/Br); Mounting Technology: Surface Mount; Code_JEDEC: MO-153; ComponentLink1Description: Manufacturer URL; ComponentLink1URL: http://www.ti.com/; ComponentLink2Description: Datasheet; ComponentLink2URL: http://www.ti.com/general/docs/lit/getliterature.tsp?genericPartNumber=DAC7568&fileType=pdf; ComponentLink3Description: Package Specification; ComponentLink3URL: http://www.ti.com/litv/pdf/mpds360
footprint TI-PW14_N (SOP, 14-Leads, Body 5x4.4mm, Pitch 0.65mm, IPC Medium Density)
footprint TI-PW14_L (SOP, 14-Leads, Body 5x4.4mm, Pitch 0.65mm, IPC High Density)
footprint TI-PW14_M (SOP, 14-Leads, Body 5x4.4mm, Pitch 0.65mm, IPC Low Density)
pins: 1 ~{SYNC} (in) "Level-triggered control input (active low). This input is the frame synchronization signal for the input data. When S\Y\N\C\ goes low, it enables the input shift register, and data are sampled on subsequent falling clock (See Datasheet)", 2 AVDD (power) "Power-supply input, 2.7V to 5.5V", 3 VOUTA (hiz) "Analog output voltage from DAC A", 4 VOUTC (hiz) "Analog output voltage from DAC C", 5 VOUTE (hiz) "Analog output voltage from DAC E", 6 VOUTG (hiz) "Analog output voltage from DAC G", 7 VREFIN/VREFOUT (io) "Positive reference input / reference output 2.5V if internal reference used.", 8 VOUTH (hiz) "Analog output voltage from DAC H", 9 VOUTF (hiz) "Analog output voltage from DAC F", 10 VOUTD (hiz) "Analog output voltage from DAC D", 11 VOUTB (hiz) "Analog output voltage from DAC B", 12 GND (power) "Ground reference point for all circuitry on the device", 13 DIN (in) "Serial data input. Data are clocked into the 32-bit input shift register on each falling edge of the serial clock input. Schmitt-Trigger logic input.", 14 SCLK (in) "Serial clock input. Data can be transferred at rates up to 50MHz. Schmitt-Trigger logic input."

## DAC7571IDBVR
designator U?
Low-Power Rail-to-Rail Output 12-Bit I2C Input DAC, -40 to 105 degC, 6-pin SOT23 (DBV6), Green (RoHS & no Sb/Br); Manufacturer: Texas Instruments; PartNumber: DAC7571IDBVR; DAC Channels: 1; INL(Max)(+/-LSB): 4; Interface: Serial I2C; Power Consumption(Typ)(mW): 0.85; Resolution(Bits): 12; Settling Time(us): 8; SubFamily: Precision DAC (=<10MSPS); DatasheetVersion: SLAS374C; PackageVersion: 4073253-5/K, 03/2006; PackageReference: DBV6; PackageDescription: 6-Pin Plastic Small Outline, Body 1.6 x 2.9 mm, Pitch 0.95 mm; Supplier 1: Digi-Key; Supplier Part Number 1: 296-26047-2-ND; Supplier 2: Digi-Key; Supplier Part Number 2: 296-26047-1-ND; Supplier 3: Digi-Key; Supplier Part Number 3: 296-26047-6-ND; Supplier 4: Farnell; Supplier Part Number 4: 1651920; Supplier 5: Newark; Supplier Part Number 5: 32H5597; Supplier 6: Mouser; Supplier Part Number 6: 595-DAC7571IDBVR; DNL(Max)(+/-LSB): 1; Eco-Plan: Green (RoHS & no Sb/Br); Mounting Technology: Surface Mount; Code_JEDEC: MO-178; ComponentLink1Description: Manufacturer URL; ComponentLink1URL: http://www.ti.com/; ComponentLink2Description: Datasheet; ComponentLink2URL: http://www.ti.com/general/docs/lit/getliterature.tsp?genericPartNumber=DAC7571&fileType=pdf; ComponentLink3Description: Package Specification; ComponentLink3URL: http://www.ti.com/litv/pdf/mpds026h
footprint TI-DBV6_N (SOT23, 6-Leads, Body 2.9x1.6mm, Pitch 0.95mm, IPC Medium Density)
footprint TI-DBV6_L (SOT23, 6-Leads, Body 2.9x1.6mm, Pitch 0.95mm, IPC High Density)
footprint TI-DBV6_M (SOT23, 6-Leads, Body 2.9x1.6mm, Pitch 0.95mm, IPC Low Density)
pins: 1 VOUT (hiz) "Analog output voltage from DAC", 2 GND (power) "Ground reference point for all circuitry on the part", 3 VDD (power) "Analog Voltage Supply Input", 4 SDA (in) "Serial Data Input", 5 SCL (in) "Serial Clock Input", 6 A0 (in) "Device Address Select"

## DAC7571IDBVRG4
designator U?
Low-Power Rail-to-Rail Output 12-Bit I2C Input DAC, -40 to 105 degC, 6-pin SOT23 (DBV6), Green (RoHS & no Sb/Br); Manufacturer: Texas Instruments; PartNumber: DAC7571IDBVRG4; DAC Channels: 1; INL(Max)(+/-LSB): 4; Interface: Serial I2C; Power Consumption(Typ)(mW): 0.85; Resolution(Bits): 12; Settling Time(us): 8; SubFamily: Precision DAC (=<10MSPS); DatasheetVersion: SLAS374C; PackageVersion: 4073253-5/K, 03/2006; PackageReference: DBV6; PackageDescription: 6-Pin Plastic Small Outline, Body 1.6 x 2.9 mm, Pitch 0.95 mm; Supplier 1: Digi-Key; Supplier Part Number 1: DAC7571IDBVRG4-ND; Supplier 2: Newark; Supplier Part Number 2: 53K9292; Supplier 3: Mouser; Supplier Part Number 3: 595-DAC7571IDBVRG4; DNL(Max)(+/-LSB): 1; Eco-Plan: Green (RoHS & no Sb/Br); Mounting Technology: Surface Mount; Code_JEDEC: MO-178; ComponentLink1Description: Manufacturer URL; ComponentLink1URL: http://www.ti.com/; ComponentLink2Description: Datasheet; ComponentLink2URL: http://www.ti.com/general/docs/lit/getliterature.tsp?genericPartNumber=DAC7571&fileType=pdf; ComponentLink3Description: Package Specification; ComponentLink3URL: http://www.ti.com/litv/pdf/mpds026h
footprint TI-DBV6_N (SOT23, 6-Leads, Body 2.9x1.6mm, Pitch 0.95mm, IPC Medium Density)
footprint TI-DBV6_L (SOT23, 6-Leads, Body 2.9x1.6mm, Pitch 0.95mm, IPC High Density)
footprint TI-DBV6_M (SOT23, 6-Leads, Body 2.9x1.6mm, Pitch 0.95mm, IPC Low Density)
pins: 1 VOUT (hiz) "Analog output voltage from DAC", 2 GND (power) "Ground reference point for all circuitry on the part", 3 VDD (power) "Analog Voltage Supply Input", 4 SDA (in) "Serial Data Input", 5 SCL (in) "Serial Clock Input", 6 A0 (in) "Device Address Select"

## DAC7571IDBVT
designator U?
Low-Power Rail-to-Rail Output 12-Bit I2C Input DAC, -40 to 105 degC, 6-pin SOT23 (DBV6), Green (RoHS & no Sb/Br); Manufacturer: Texas Instruments; PartNumber: DAC7571IDBVT; DAC Channels: 1; INL(Max)(+/-LSB): 4; Interface: Serial I2C; Power Consumption(Typ)(mW): 0.85; Resolution(Bits): 12; Settling Time(us): 8; SubFamily: Precision DAC (=<10MSPS); DatasheetVersion: SLAS374C; PackageVersion: 4073253-5/K, 03/2006; PackageReference: DBV6; PackageDescription: 6-Pin Plastic Small Outline, Body 1.6 x 2.9 mm, Pitch 0.95 mm; Supplier 1: Digi-Key; Supplier Part Number 1: 296-14345-2-ND; Supplier 2: Digi-Key; Supplier Part Number 2: 296-14345-1-ND; Supplier 3: Digi-Key; Supplier Part Number 3: 296-14345-6-ND; Supplier 4: Newark; Supplier Part Number 4: 32H5598; Supplier 5: Mouser; Supplier Part Number 5: 595-DAC7571IDBVT; DNL(Max)(+/-LSB): 1; Eco-Plan: Green (RoHS & no Sb/Br); Mounting Technology: Surface Mount; Code_JEDEC: MO-178; ComponentLink1Description: Manufacturer URL; ComponentLink1URL: http://www.ti.com/; ComponentLink2Description: Datasheet; ComponentLink2URL: http://www.ti.com/general/docs/lit/getliterature.tsp?genericPartNumber=DAC7571&fileType=pdf; ComponentLink3Description: Package Specification; ComponentLink3URL: http://www.ti.com/litv/pdf/mpds026h
footprint TI-DBV6_N (SOT23, 6-Leads, Body 2.9x1.6mm, Pitch 0.95mm, IPC Medium Density)
footprint TI-DBV6_L (SOT23, 6-Leads, Body 2.9x1.6mm, Pitch 0.95mm, IPC High Density)
footprint TI-DBV6_M (SOT23, 6-Leads, Body 2.9x1.6mm, Pitch 0.95mm, IPC Low Density)
pins: 1 VOUT (hiz) "Analog output voltage from DAC", 2 GND (power) "Ground reference point for all circuitry on the part", 3 VDD (power) "Analog Voltage Supply Input", 4 SDA (in) "Serial Data Input", 5 SCL (in) "Serial Clock Input", 6 A0 (in) "Device Address Select"

## DAC7571IDBVTG4
designator U?
Low-Power Rail-to-Rail Output 12-Bit I2C Input DAC, -40 to 105 degC, 6-pin SOT23 (DBV6), Green (RoHS & no Sb/Br); Manufacturer: Texas Instruments; PartNumber: DAC7571IDBVTG4; DAC Channels: 1; INL(Max)(+/-LSB): 4; Interface: Serial I2C; Power Consumption(Typ)(mW): 0.85; Resolution(Bits): 12; Settling Time(us): 8; SubFamily: Precision DAC (=<10MSPS); DatasheetVersion: SLAS374C; PackageVersion: 4073253-5/K, 03/2006; PackageReference: DBV6; PackageDescription: 6-Pin Plastic Small Outline, Body 1.6 x 2.9 mm, Pitch 0.95 mm; Supplier 1: Digi-Key; Supplier Part Number 1: DAC7571IDBVTG4-ND; Supplier 2: Farnell; Supplier Part Number 2: 1206854; Supplier 3: Newark; Supplier Part Number 3: 96K8418; Supplier 4: Newark; Supplier Part Number 4: 33K5131; Supplier 5: Mouser; Supplier Part Number 5: 595-DAC7571IDBVTG4; DNL(Max)(+/-LSB): 1; Eco-Plan: Green (RoHS & no Sb/Br); Mounting Technology: Surface Mount; Code_JEDEC: MO-178; ComponentLink1Description: Manufacturer URL; ComponentLink1URL: http://www.ti.com/; ComponentLink2Description: Datasheet; ComponentLink2URL: http://www.ti.com/general/docs/lit/getliterature.tsp?genericPartNumber=DAC7571&fileType=pdf; ComponentLink3Description: Package Specification; ComponentLink3URL: http://www.ti.com/litv/pdf/mpds026h
footprint TI-DBV6_N (SOT23, 6-Leads, Body 2.9x1.6mm, Pitch 0.95mm, IPC Medium Density)
footprint TI-DBV6_L (SOT23, 6-Leads, Body 2.9x1.6mm, Pitch 0.95mm, IPC High Density)
footprint TI-DBV6_M (SOT23, 6-Leads, Body 2.9x1.6mm, Pitch 0.95mm, IPC Low Density)
pins: 1 VOUT (hiz) "Analog output voltage from DAC", 2 GND (power) "Ground reference point for all circuitry on the part", 3 VDD (power) "Analog Voltage Supply Input", 4 SDA (in) "Serial Data Input", 5 SCL (in) "Serial Clock Input", 6 A0 (in) "Device Address Select"

## DAC7573IPW
designator U?
Quad, 12-Bit, 10 us, DAC with I2C Digital Interface, -40 to 85 degC, 16-pin SOP (PW16), Green (RoHS & no Sb/Br); Manufacturer: Texas Instruments; PartNumber: DAC7573IPW; DAC Channels: 4; DNL(Max)(+/-LSB): 1; INL(Max)(+/-LSB): 8; Interface: Serial I2C; Power Consumption(Typ)(mW): 1.8; Resolution(Bits): 12; Settling Time(us): 10; SubFamily: Precision DAC (=<10MSPS); DatasheetVersion: SLAS398; PackageVersion: 4040064-4/G, 02/2011; PackageReference: PW16; PackageDescription: 16-Pin Plastic Small Outline, Body 5 x 4.4 mm, Pitch 0.65 mm; Supplier 1: Digi-Key; Supplier Part Number 1: 296-15745-5-ND; Supplier 2: Newark; Supplier Part Number 2: 87H0866; Supplier 3: Mouser; Supplier Part Number 3: 595-DAC7573IPW; Eco-Plan: Green (RoHS & no Sb/Br); Mounting Technology: Surface Mount; Code_JEDEC: MO-153; ComponentLink1Description: Manufacturer URL; ComponentLink1URL: http://www.ti.com/; ComponentLink2Description: Datasheet; ComponentLink2URL: http://www.ti.com/general/docs/lit/getliterature.tsp?genericPartNumber=DAC7573&fileType=pdf; ComponentLink3Description: Package Specification; ComponentLink3URL: http://www.ti.com/lit/ml/mpds361/mpds361.pdf
footprint TI-PW16_N (SOP, 16-Leads, Body 5x4.4mm, Pitch 0.65mm, IPC Medium Density)
footprint TI-PW16_L (SOP, 16-Leads, Body 5x4.4mm, Pitch 0.65mm, IPC High Density)
footprint TI-PW16_M (SOP, 16-Leads, Body 5x4.4mm, Pitch 0.65mm, IPC Low Density)
pins: 1 VOUTA (hiz) "Analog output voltage from DAC A", 2 VOUTB (hiz) "Analog output voltage from DAC B", 3 VREFH (in) "Positive reference voltage input", 4 VDD (power) "Analog voltage supply input", 5 VREFL (in) "Negative reference voltage input", 6 GND (power) "Ground reference point for all circuitry on the part", 7 VOUTC (hiz) "Analog output voltage from DAC C", 8 VOUTD (hiz) "Analog output voltage from DAC D", 9 LDAC (in) "H/W synchronous VOUT update", 10 SCL (in) "Serial clock input", 11 SDA (io) "Serial data input", 12 IOVDD (power) "I/O voltage supply input", 13 A0 (in) "Device address select - I2C", 14 A1 (in) "Device address select - I2C", 15 A2 (in) "Device address select - Extended", 16 A3 (in) "Device address select - Extended"

## DAC7573IPWG4
designator U?
Quad, 12-Bit, 10 us, DAC with I2C Digital Interface, -40 to 85 degC, 16-pin SOP (PW16), Green (RoHS & no Sb/Br); Manufacturer: Texas Instruments; PartNumber: DAC7573IPWG4; DAC Channels: 4; DNL(Max)(+/-LSB): 1; INL(Max)(+/-LSB): 8; Interface: Serial I2C; Power Consumption(Typ)(mW): 1.8; Resolution(Bits): 12; Settling Time(us): 10; SubFamily: Precision DAC (=<10MSPS); DatasheetVersion: SLAS398; PackageVersion: 4040064-4/G, 02/2011; PackageReference: PW16; PackageDescription: 16-Pin Plastic Small Outline, Body 5 x 4.4 mm, Pitch 0.65 mm; Supplier 1: Digi-Key; Supplier Part Number 1: DAC7573IPWG4-ND; Supplier 2: Newark; Supplier Part Number 2: 40K6399; Supplier 3: Mouser; Supplier Part Number 3: 595-DAC7573IPWG4; Eco-Plan: Green (RoHS & no Sb/Br); Mounting Technology: Surface Mount; Code_JEDEC: MO-153; ComponentLink1Description: Manufacturer URL; ComponentLink1URL: http://www.ti.com/; ComponentLink2Description: Datasheet; ComponentLink2URL: http://www.ti.com/general/docs/lit/getliterature.tsp?genericPartNumber=DAC7573&fileType=pdf; ComponentLink3Description: Package Specification; ComponentLink3URL: http://www.ti.com/lit/ml/mpds361/mpds361.pdf
footprint TI-PW16_N (SOP, 16-Leads, Body 5x4.4mm, Pitch 0.65mm, IPC Medium Density)
footprint TI-PW16_L (SOP, 16-Leads, Body 5x4.4mm, Pitch 0.65mm, IPC High Density)
footprint TI-PW16_M (SOP, 16-Leads, Body 5x4.4mm, Pitch 0.65mm, IPC Low Density)
pins: 1 VOUTA (hiz) "Analog output voltage from DAC A", 2 VOUTB (hiz) "Analog output voltage from DAC B", 3 VREFH (in) "Positive reference voltage input", 4 VDD (power) "Analog voltage supply input", 5 VREFL (in) "Negative reference voltage input", 6 GND (power) "Ground reference point for all circuitry on the part", 7 VOUTC (hiz) "Analog output voltage from DAC C", 8 VOUTD (hiz) "Analog output voltage from DAC D", 9 LDAC (in) "H/W synchronous VOUT update", 10 SCL (in) "Serial clock input", 11 SDA (io) "Serial data input", 12 IOVDD (power) "I/O voltage supply input", 13 A0 (in) "Device address select - I2C", 14 A1 (in) "Device address select - I2C", 15 A2 (in) "Device address select - Extended", 16 A3 (in) "Device address select - Extended"

## DAC7573IPWR
designator U?
Quad, 12-Bit, 10 us, DAC with I2C Digital Interface, -40 to 85 degC, 16-pin SOP (PW16), Green (RoHS & no Sb/Br); Manufacturer: Texas Instruments; PartNumber: DAC7573IPWR; DAC Channels: 4; DNL(Max)(+/-LSB): 1; INL(Max)(+/-LSB): 8; Interface: Serial I2C; Power Consumption(Typ)(mW): 1.8; Resolution(Bits): 12; Settling Time(us): 10; SubFamily: Precision DAC (=<10MSPS); DatasheetVersion: SLAS398; PackageVersion: 4040064-4/G, 02/2011; PackageReference: PW16; PackageDescription: 16-Pin Plastic Small Outline, Body 5 x 4.4 mm, Pitch 0.65 mm; Supplier 1: Digi-Key; Supplier Part Number 1: DAC7573IPWR-ND; Supplier 2: Newark; Supplier Part Number 2: 87H0867; Supplier 3: Mouser; Supplier Part Number 3: 595-DAC7573IPWR; Eco-Plan: Green (RoHS & no Sb/Br); Mounting Technology: Surface Mount; Code_JEDEC: MO-153; ComponentLink1Description: Manufacturer URL; ComponentLink1URL: http://www.ti.com/; ComponentLink2Description: Datasheet; ComponentLink2URL: http://www.ti.com/general/docs/lit/getliterature.tsp?genericPartNumber=DAC7573&fileType=pdf; ComponentLink3Description: Package Specification; ComponentLink3URL: http://www.ti.com/lit/ml/mpds361/mpds361.pdf
footprint TI-PW16_N (SOP, 16-Leads, Body 5x4.4mm, Pitch 0.65mm, IPC Medium Density)
footprint TI-PW16_L (SOP, 16-Leads, Body 5x4.4mm, Pitch 0.65mm, IPC High Density)
footprint TI-PW16_M (SOP, 16-Leads, Body 5x4.4mm, Pitch 0.65mm, IPC Low Density)
pins: 1 VOUTA (hiz) "Analog output voltage from DAC A", 2 VOUTB (hiz) "Analog output voltage from DAC B", 3 VREFH (in) "Positive reference voltage input", 4 VDD (power) "Analog voltage supply input", 5 VREFL (in) "Negative reference voltage input", 6 GND (power) "Ground reference point for all circuitry on the part", 7 VOUTC (hiz) "Analog output voltage from DAC C", 8 VOUTD (hiz) "Analog output voltage from DAC D", 9 LDAC (in) "H/W synchronous VOUT update", 10 SCL (in) "Serial clock input", 11 SDA (io) "Serial data input", 12 IOVDD (power) "I/O voltage supply input", 13 A0 (in) "Device address select - I2C", 14 A1 (in) "Device address select - I2C", 15 A2 (in) "Device address select - Extended", 16 A3 (in) "Device address select - Extended"